# EAGLE library part HMC1052 (library paparazzi)
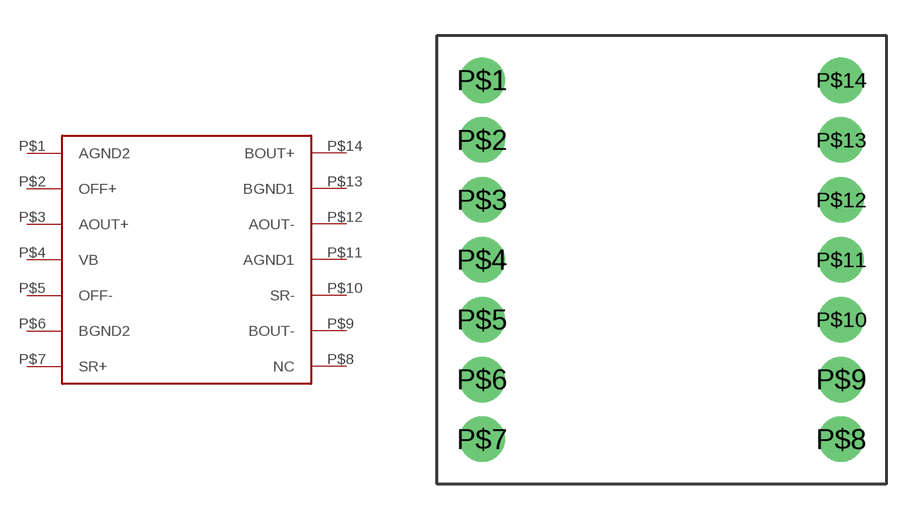
[diagram p48: symbol with the pads of SPARKFUN_MODULE; footprint SPARKFUN_MODULE]

Designator prefix -

## HMC1052SF  [SPARKFUN_MODULE]
P$1  AGND2
P$2  OFF+
P$3  AOUT+
P$4  VB
P$5  OFF-
P$6  BGND2
P$7  SR+
P$8  NC
P$9  BOUT-
P$10  SR-
P$11  AGND1
P$12  AOUT-
P$13  BGND1
P$14  BOUT+

## Footprint SPARKFUN_MODULE (pad centres in mm)
drill 0.8 pad 1.93 round: P$1 -7.62,7.62; P$2 -7.62,5.08; P$3 -7.62,2.54; P$4 -7.62,0; P$5 -7.62,-2.54; P$6 -7.62,-5.08; P$7 -7.62,-7.62; P$8 7.62,-7.62; P$9 7.62,-5.08; P$10 7.62,-2.54; P$11 7.62,0; P$12 7.62,2.54; P$13 7.62,5.08; P$14 7.62,7.62